# EAGLE library part AD1955ARSZ (library ads1955arsz)
AD1955ARSZ Analog digital converter
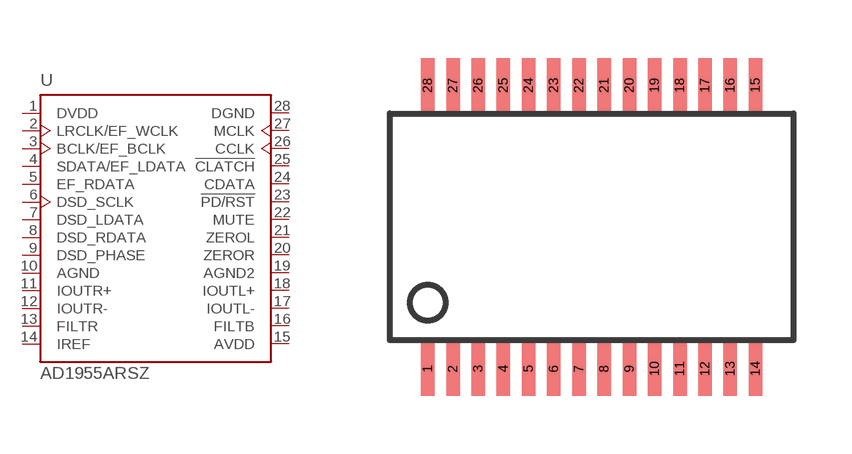
[diagram p0: symbol with the pads of SSOP28DB; footprint SSOP28DB]

Designator prefix -

## AD1955ARSZ  [SSOP28DB]
1  DVDD  pwr
2  LRCLK/EF_WCLK  in
3  BCLK/EF_BCLK  in
4  SDATA/EF_LDATA  in
5  EF_RDATA  in
6  DSD_SCLK
7  DSD_LDATA  in
8  DSD_RDATA  in
9  DSD_PHASE
10  AGND  pwr
11  IOUTR+  out
12  IOUTR-  out
13  FILTR  pas
14  IREF  pas
15  AVDD  pwr
16  FILTB  pas
17  IOUTL-  out
18  IOUTL+  out
19  AGND2  pwr
20  ZEROR  out
21  ZEROL  out
22  MUTE  in
23  !PD/RST  in
24  CDATA  in
25  !CLATCH  in
26  CCLK  in
27  MCLK  in
28  DGND  pwr

## Footprint SSOP28DB (pad centres in mm)
Small Shrink Outline Package
smd 0.348 x 1.397: 1 -4.225,-3.656; 2 -3.575,-3.656; 3 -2.925,-3.656; 4 -2.275,-3.656; 5 -1.625,-3.656; 6 -0.975,-3.656; 7 -0.325,-3.656; 8 0.325,-3.656; 9 0.975,-3.656; 10 1.625,-3.656; 11 2.275,-3.656; 12 2.925,-3.656; 13 3.575,-3.656; 14 4.225,-3.656; 15 4.225,3.656; 16 3.575,3.656; 17 2.925,3.656; 18 2.275,3.656; 19 1.625,3.656; 20 0.975,3.656; 21 0.325,3.656; 22 -0.325,3.656; 23 -0.975,3.656; 24 -1.625,3.656; 25 -2.275,3.656; 26 -2.925,3.656; 27 -3.575,3.656; 28 -4.225,3.656